# Altium footprint library C_TANT_C(6032).PcbLib: 1 footprints
Each footprint in its own frame and in the unit in brackets; x right, y up, seen from the top. Pads: shape width x height; smd on the part's side, far side on the other; paste and mask are expansions set on the pad; w line width, h text height; cw(c..) or ccw(c..) is an arc to the next point about the centre after c.
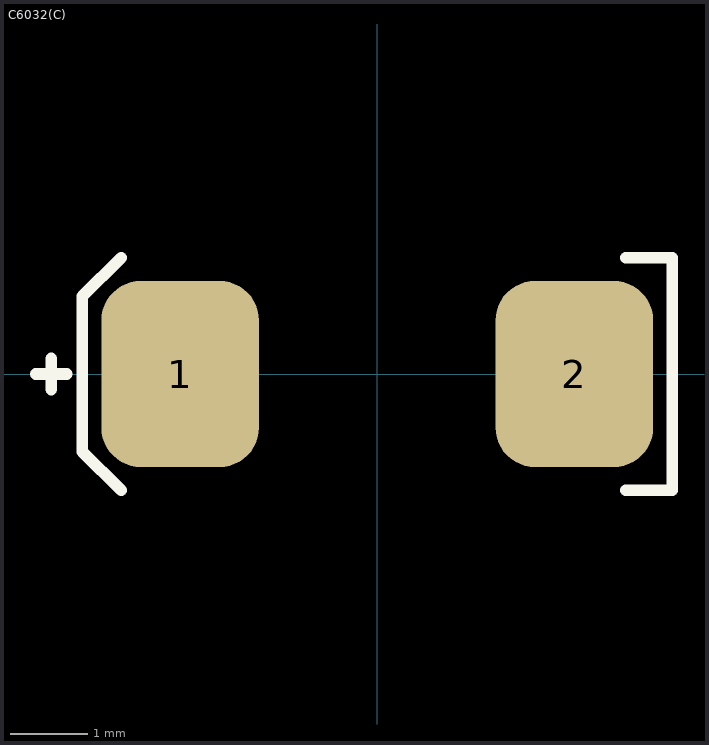
[diagram p0: the footprint, top view; thin cyan lines are the x and y axes]

## C6032(C) [mm]
pads (2):
  rrect50% 2.03x2.4 smd: 1(-2.54,0) 2(2.54,0)
Top Overlay:
  lines w0.15: -4.4,0 -4,0 ; -4.2,-0.2 -4.2,0.2 ; -3.3,-1.5 -3.8,-1 -3.8,1 -3.3,1.5 ; 3.2,-1.5 3.8,-1.5 3.8,1.5 3.2,1.5
3D body "TANTALUM_C.STEP": height 2.61, standoff 0, extent -3.02,-1.6 3.02,1.6